# EAGLE library part SENSOR-LSM6DS3TR-C (library Making)
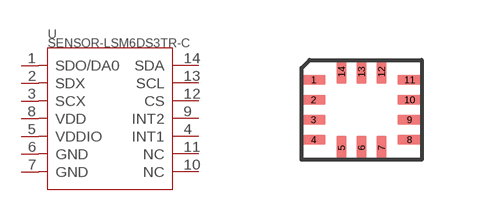
[diagram p2: symbol with the pads of LGA14-0.5-2.5X3X0.86MM; footprint LGA14-0.5-2.5X3X0.86MM]

Designator prefix U

## SENSOR-LSM6DS3TR-C  [LGA14-0.5-2.5X3X0.86MM]
1  SDO/DA0
2  SDX
3  SCX
4  INT1
5  VDDIO
6  GND
7  GND
8  VDD
9  INT2
10  NC
11  NC
12  CS
13  SCL
14  SDA

## Footprint LGA14-0.5-2.5X3X0.86MM (pad centres in mm)
smd 0.6 x 0.25: 1 -1.2,0.75; 2 -1.2,0.25; 3 -1.2,-0.25; 4 -1.2,-0.75; 8 1.2,-0.75; 9 1.2,-0.25; 10 1.2,0.25; 11 1.2,0.75
smd 0.25 x 0.6: 5 -0.5,-0.95; 6 0,-0.95; 7 0.5,-0.95; 12 0.5,0.95; 13 0,0.95; 14 -0.5,0.95